# Altium footprint library WillsFootPrintLibrary.PcbLib: 28 footprints (part 2 of 2)
Each footprint in its own frame and in the unit in brackets; x right, y up, seen from the top. Pads: shape width x height; smd on the part's side, far side on the other; paste and mask are expansions set on the pad; w line width, h text height; cw(c..) or ccw(c..) is an arc to the next point about the centre after c.
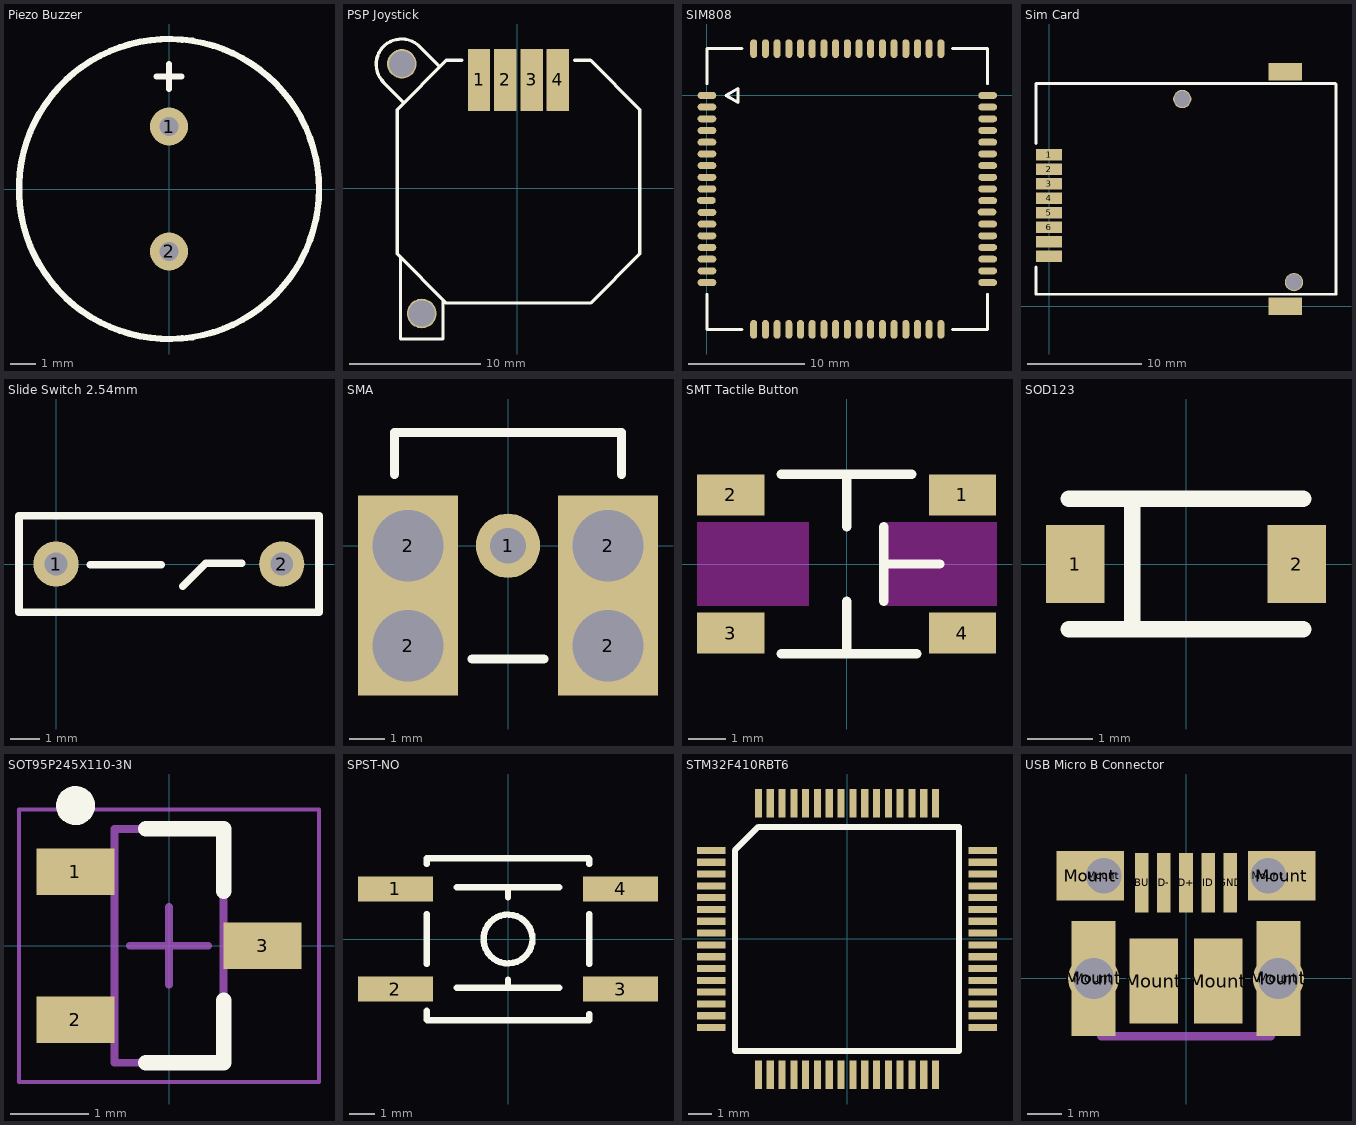
[diagram p1: the footprints below, top view; thin cyan lines are the x and y axes]

## Piezo Buzzer [mil] "SD1029T3-A1"
height 354.33
pads (2):
  round 60 hole 30: 1(0,98.43) 2(0,-98.43)
Top Overlay:
  circle w10: c0,0 r236.22
  lines w10: -19.68,177.17 19.68,177.17 ; 0,157.48 0,196.85

## PSP Joystick [mm]
height 9
pads (6):
  rect 1.7x4.754 smd: 1(-2.931,8.256) 2(-0.925,8.256) 3(1.082,8.256) 4(3.063,8.256)
  round 2.257 hole 2: ""(-8.816,9.483) ""(-7.302,-9.562)
Top Overlay:
  lines w0.254: -10.323,8.155 -8.672,6.504 ; -10.214,8.085 cw(c-8.849,9.45) -7.484,10.815 ; -8.926,-5.308 -8.926,-11.505 -5.674,-11.505 -5.674,-8.576 ; -7.579,10.898 -5.928,9.247 ; -4.255,9.755 -5.42,9.755 -9.18,5.996 -9.18,-5.003 -5.42,-8.762 5.578,-8.762 9.337,-5.003 9.337,5.996 5.578,9.755 4.37,9.755

## SIM808 [mm] "GSM+GPRS+GPS"
height 2.6
pads (68):
  oval 1.6x0.6 smd: 1(0,0) 2(0,-1) 3(0,-2) 4(0,-3) 5(0,-4) 6(0,-5) 7(0,-6) 8(0,-7) 9(0,-8) 10(-0.05,-8.975) 11(0,-10) 12(0,-11) 13(0,-12) 14(0,-13) 15(0,-14) 16(0,-15) 17(0,-16) 35(24,-16) 36(24,-15) 37(24,-14) 38(24,-13) 39(24,-12) 40(24,-11) 41(23.95,-9.975) 42(24,-9) 43(24,-8) 44(24,-7) 45(24,-6) 46(24,-5) 47(24,-4) 48(24,-3) 49(24,-2) 50(24,-1) 51(24,0)
  oval 0.6x1.6 smd: 18(4,-20) 19(5,-20) 20(6,-20) 21(7,-20) 22(8,-20) 23(9,-20) 24(10,-20) 25(11,-20) 26(12,-20) 27(13,-20) 28(14,-20) 29(15,-20) 30(16,-20) 31(17,-20) 32(18,-20) 33(19,-20) 34(20,-20) 52(20,4) 53(19,4) 54(18,4) 55(17,4) 56(16,4) 57(15,4) 58(14,4) 59(13,4) 60(12,4) 61(11,4) 62(10,4) 63(9,4) 64(8,4) 65(7,4) 66(6,4) 67(5,4) 68(4,4)
Top Overlay:
  lines w0.254: 0,-17 0,-20 3,-20 ; 0,1 0,4 3,4 ; 21,-20 24,-20 24,-17 ; 21,4 24,4 24,1 ; 1.625,0 2.675,-0.6 2.675,0.6 1.625,0

## Sim Card [mm]
height 1.8
pads (12):
  rect 2.3x1 smd: 1(0,13.26) 2(0,11.99) 3(0,10.72) 4(0,9.45) 5(0,8.18) 6(0,6.91) ""(0,4.37) ""(0,5.64)
  round 1.6 hole 1.4: ""(11.67,18.16) ""(21.47,2.11)
  rect 2.95x1.5 smd: ""(20.7,0) ""(20.7,20.55)
Top Overlay:
  lines w0.254: -1.15,3.425 -1.15,1.05 25.15,1.05 25.15,19.475 ; -1.15,14.275 -1.15,19.525 25.1,19.525

## Slide Switch 2.54mm [mil]
height 196.85
pads (2):
  round 60 hole 30: 1(0,0) 2(300,0)
Top Overlay:
  lines w10: 45.28,-0.98 96.46,-0.98 139.76,-0.98 ; 168.31,-29.53 198.82,0.98 247.05,0.98 ; -49.21,-63.98 -49.21,63.98 349.41,63.98 349.41,-63.98 -49.21,-63.98

## SMA [mm]
pads (5):
  round 1.8 hole 1: 1(0,0)
  rect 2.8x2.8 hole 2: 2(-2.8,-2.8) 2(-2.8,0) 2(2.8,-2.8) 2(2.8,0)
Top Overlay:
  lines w0.254: -3.175,2 -3.175,3.175 3.175,3.175 3.175,2 ; -1,-3.175 1,-3.175

## SMT Tactile Button [mm]
height 1.5
pads (4):
  rect 1.8x1.1 smd: 1(3.1,1.85) 2(-3.1,1.85) 3(-3.1,-1.85) 4(3.1,-1.85)
Top Layer keep-out:
  rectangle: 1.025,-1.125 4.025,1.125
  rectangle: -4,-1.125 -1,1.125
Top Overlay:
  lines w0.254: -1.75,-2.4 1.875,-2.4 ; -1.75,2.4 1.75,2.4 ; 0,-2.4 0,-1 ; 0,1 0,2.4 ; 1,-1 1,1 ; 1,0 2.5,0

## SOD123 [mm] "SOD123 Zener Diode Package"
height 1.35
pads (2):
  rect 0.9x1.2 smd: 1(-1.7,0) 2(1.7,0)
Top Overlay:
  lines w0.254: -1.8,-1 1.8,-1 ; -1.8,1 1.8,1 ; -0.825,-0.95 -0.825,0.95

## SOT95P245X110-3N [mm] "SOT23, 3-Leads, Body 2.90x2.45mm, Pitch 0.95mm, IPC Medium Density"
height 1.1
pads (3):
  rect 1x0.6 smd: 1(-1.2,0.95) 2(-1.2,-0.95) 3(1.2,0)
Top Overlay:
  circle w0.25: c-1.2,1.8 r0.125
  lines w0.2: -0.3,-1.5 0.7,-1.5 0.7,-0.7 ; -0.3,1.5 0.7,1.5 0.7,0.7
Mechanical 13:
  lines w0.1: -0.7,-1.5 0.7,-1.5 0.7,1.5 -0.7,1.5 -0.7,-1.5
Mechanical 15:
  lines w0.05: -1.925,-1.75 1.925,-1.75 1.925,1.75 -1.925,1.75 -1.925,-1.75
  lines w0.1: -0.5,0 0.5,0 ; 0,-0.5 0,0.5
3D body: height 1.1, standoff 0.05, extent -0.7,-1.5 0.7,1.5

## SPST-NO [mm]
pads (4):
  rect 3x1 smd: 1(-4.5,2) 2(-4.5,-2) 3(4.5,-2) 4(4.5,2)
Top Overlay:
  circle w0.254: c0,0 r0.978
  lines w0.254: -3.25,-3.225 -3.25,-2.875 ; -3.25,-1 -3.25,1 ; -3.25,3 -3.25,3.225 3.225,3.225 ; -3.225,-3.25 3.25,-3.25 3.25,-3 ; -2.05,-1.95 2.05,-1.95 ; -2.05,2.075 2.05,2.075 ; 0,-1.95 0,-1.625 ; 0,1.675 0,2.075 ; 3.25,-1 3.25,1 ; 3.25,3 3.25,3.2

## STM32F410RBT6 [mm]
height 1.45
pads (64):
  rect 1.2x0.3 smd: 1(-5.75,3.75) 2(-5.75,3.25) 3(-5.75,2.75) 4(-5.75,2.25) 5(-5.75,1.75) 6(-5.75,1.25) 7(-5.75,0.75) 8(-5.75,0.25) 9(-5.75,-0.25) 10(-5.75,-0.75) 11(-5.75,-1.25) 12(-5.75,-1.75) 13(-5.75,-2.25) 14(-5.75,-2.75) 15(-5.75,-3.25) 16(-5.75,-3.75) 33(5.75,-3.75) 34(5.75,-3.25) 35(5.75,-2.75) 36(5.75,-2.25) 37(5.75,-1.75) 38(5.75,-1.25) 39(5.75,-0.75) 40(5.75,-0.25) 41(5.75,0.25) 42(5.75,0.75) 43(5.75,1.25) 44(5.75,1.75) 45(5.75,2.25) 46(5.75,2.75) 47(5.75,3.25) 48(5.75,3.75)
  rect 0.3x1.2 smd: 17(-3.75,-5.75) 18(-3.25,-5.75) 19(-2.75,-5.75) 20(-2.25,-5.75) 21(-1.75,-5.75) 22(-1.25,-5.75) 23(-0.75,-5.75) 24(-0.25,-5.75) 25(0.25,-5.75) 26(0.75,-5.75) 27(1.25,-5.75) 28(1.75,-5.75) 29(2.25,-5.75) 30(2.75,-5.75) 31(3.25,-5.75) 32(3.75,-5.75) 49(3.75,5.75) 50(3.25,5.75) 51(2.75,5.75) 52(2.25,5.75) 53(1.75,5.75) 54(1.25,5.75) 55(0.75,5.75) 56(0.25,5.75) 57(-0.25,5.75) 58(-0.75,5.75) 59(-1.25,5.75) 60(-1.75,5.75) 61(-2.25,5.75) 62(-2.75,5.75) 63(-3.25,5.75) 64(-3.75,5.75)
Top Overlay:
  lines w0.254: -4.75,-4.75 -4.75,3.75 -3.75,4.75 4.75,4.75 4.75,-4.75 -4.75,-4.75

## USB Micro B Connector [mm]
height 3
pads (15):
  rect 0.4x1.75 smd: D+(0,2.825) D-(-0.65,2.825) GND(1.3,2.825) ID(0.65,2.825) VBUS(-1.3,2.825)
  rect 2x1.46 all layers, no hole: Mount(-2.825,3.03) Mount(2.825,3.03)
  round 1.5 hole 1.2: Mount(-2.725,0) Mount(2.725,0)
  rect 1.3x3.4 smd: Mount(-2.725,0) Mount(2.725,0)
  round 1.2 hole 1.05: Mount(-2.425,3.03) Mount(2.425,3.03)
  rect 1.425x2.5 smd: Mount(-0.95,-0.075) Mount(0.95,-0.075)
Mechanical 1:
  lines w0.254: -2.5,-1.7 2.5,-1.7